# EAGLE library part DBP.1567.S.A.50 (library DBP.1567.S.A.50)
Ceramic Filters Band Pass 1567.5MHz 1dB 50Ohm SMD 2Pin Source: Datasheet <https://www.taoglas.com/datasheets/DBP.1567.S.A.50.pdf>
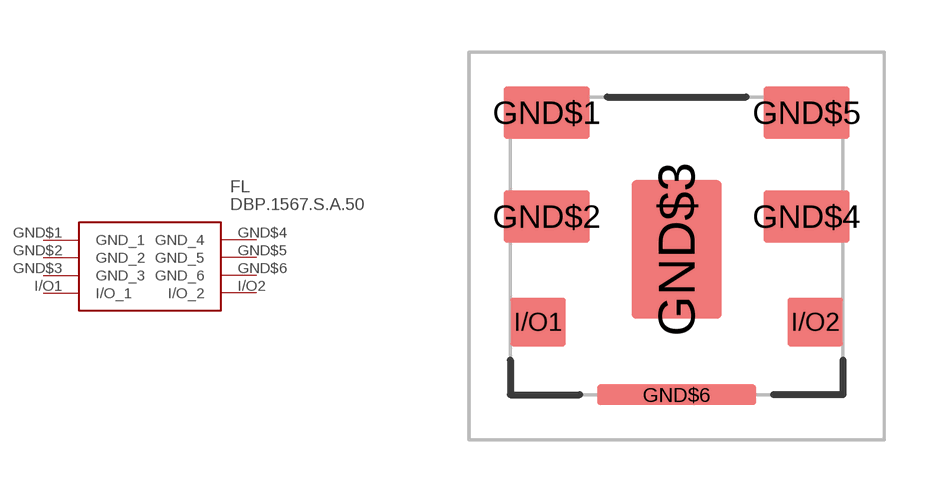
[diagram p0: symbol with the pads of DBP1567SA50; footprint DBP1567SA50]

Designator prefix FL

## DBP.1567.S.A.50 (DESCRIPTION: Ceramic Filters Band Pass 1567.5MHz 1dB 50Ohm SMD 2Pin; HEIGHT: 4.2mm; MANUFACTURER_NAME: Taoglas; MANUFACTURER_PART_NUMBER: DBP.1567.S.A.50)  [DBP1567SA50]
GND$1  GND_1
GND$2  GND_2
GND$3  GND_3
GND$4  GND_4
GND$5  GND_5
GND$6  GND_6
I/O1  I/O_1
I/O2  I/O_2

## Footprint DBP1567SA50 (pad centres in mm)
DBP.1567.S.A.50-2
smd 2.5 x 1.5: GND$1 1.05,6.75; GND$2 1.05,3.75; GND$4 8.55,3.75; GND$5 8.55,6.75
smd 2.6 x 4: GND$3 4.8,2.8
smd 4.6 x 0.6: GND$6 4.8,-1.4
smd 1.6 x 1.4: I/O1 0.8,0.7; I/O2 8.8,0.7